# Altium footprint library maxim.PCBLIB: 63 footprints (part 4 of 4)
Each footprint in its own frame and in the unit in brackets; x right, y up, seen from the top. Pads: shape width x height; smd on the part's side, far side on the other; paste and mask are expansions set on the pad; w line width, h text height; cw(c..) or ccw(c..) is an arc to the next point about the centre after c.
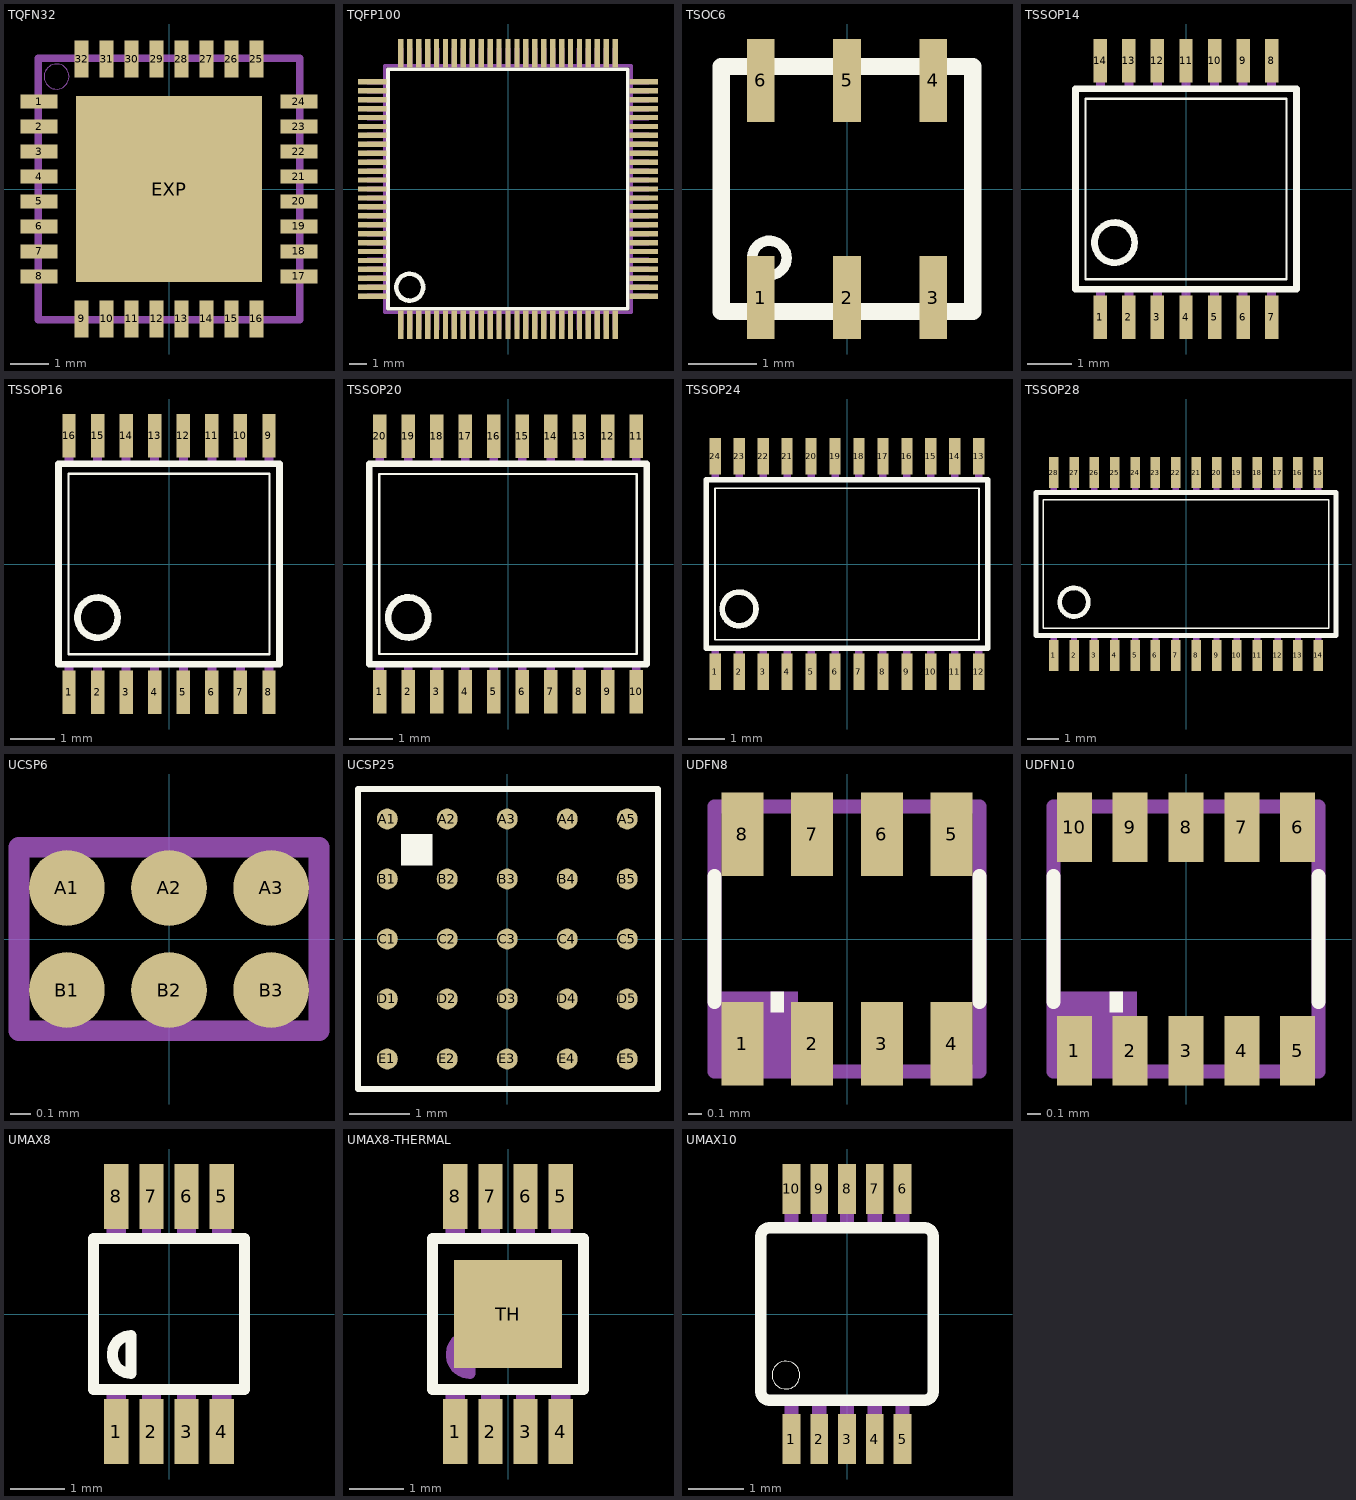
[diagram p3: the footprints below, top view; thin cyan lines are the x and y axes]

## TQFN32 [mil]
pads (33):
  rect 37.99x14.39 smd: 1(-132.99,89.57) 2(-132.99,63.98) 3(-132.99,38.39) 4(-132.99,12.8) 5(-132.99,-12.8) 6(-132.99,-38.39) 7(-132.99,-63.98) 8(-132.99,-89.57) 17(132.99,-89.57) 18(132.99,-63.98) 19(132.99,-38.39) 20(132.99,-12.8) 21(132.99,12.8) 22(132.99,38.39) 23(132.99,63.98) 24(132.99,89.57)
  rect 14.39x37.99 smd: 9(-89.57,-132.99) 10(-63.98,-132.99) 11(-38.39,-132.99) 12(-12.8,-132.99) 13(12.8,-132.99) 14(38.39,-132.99) 15(63.98,-132.99) 16(89.57,-132.99) 25(89.57,132.99) 26(63.98,132.99) 27(38.39,132.99) 28(12.8,132.99) 29(-12.8,132.99) 30(-38.39,132.99) 31(-63.98,132.99) 32(-89.57,132.99)
  rect 190.98x190.98 smd: EXP(0,0)
Top Paste:
  rectangle: -150.69,83.66 -115.26,95.47
  rectangle: -90.55,-90.55 90.55,90.55
  rectangle: -150.69,58.07 -115.26,69.88
  rectangle: -150.69,32.48 -115.26,44.29
  rectangle: -150.69,6.89 -115.26,18.7
  rectangle: -150.69,-18.7 -115.26,-6.89
  rectangle: -150.69,-44.29 -115.26,-32.48
  rectangle: -150.69,-69.88 -115.26,-58.07
  rectangle: -150.69,-95.47 -115.26,-83.66
  region: -83.66,-150.69 -83.66,-115.26 -95.47,-115.26 -95.47,-150.69
  region: -58.07,-150.69 -58.07,-115.26 -69.88,-115.26 -69.88,-150.69
  region: -32.48,-150.69 -32.48,-115.26 -44.29,-115.26 -44.29,-150.69
  region: -6.89,-150.69 -6.89,-115.26 -18.7,-115.26 -18.7,-150.69
  region: 18.7,-150.69 18.7,-115.26 6.89,-115.26 6.89,-150.69
  region: 44.29,-150.69 44.29,-115.26 32.48,-115.26 32.48,-150.69
  region: 69.88,-150.69 69.88,-115.26 58.07,-115.26 58.07,-150.69
  region: 95.47,-150.69 95.47,-115.26 83.66,-115.26 83.66,-150.69
  region: 150.69,-83.66 115.26,-83.66 115.26,-95.47 150.69,-95.47
  region: 150.69,-58.07 115.26,-58.07 115.26,-69.88 150.69,-69.88
  region: 150.69,-32.48 115.26,-32.48 115.26,-44.29 150.69,-44.29
  region: 150.69,-6.89 115.26,-6.89 115.26,-18.7 150.69,-18.7
  region: 150.69,18.7 115.26,18.7 115.26,6.89 150.69,6.89
  region: 150.69,44.29 115.26,44.29 115.26,32.48 150.69,32.48
  region: 150.69,69.88 115.26,69.88 115.26,58.07 150.69,58.07
  region: 150.69,95.47 115.26,95.47 115.26,83.66 150.69,83.66
  region: 83.66,150.69 83.66,115.26 95.47,115.26 95.47,150.69
  region: 58.07,150.69 58.07,115.26 69.88,115.26 69.88,150.69
  region: 32.48,150.69 32.48,115.26 44.29,115.26 44.29,150.69
  region: 6.89,150.69 6.89,115.26 18.7,115.26 18.7,150.69
  region: -18.7,150.69 -18.7,115.26 -6.89,115.26 -6.89,150.69
  region: -44.29,150.69 -44.29,115.26 -32.48,115.26 -32.48,150.69
  region: -69.88,150.69 -69.88,115.26 -58.07,115.26 -58.07,150.69
  region: -95.47,150.69 -95.47,115.26 -83.66,115.26 -83.66,150.69
Top Solder:
  rectangle: -153.64,80.71 -112.3,98.43
  rectangle: -99.41,-98.43 98.43,98.43
  rectangle: -153.64,55.12 -112.3,72.83
  rectangle: -153.64,29.53 -112.3,47.24
  rectangle: -153.64,3.94 -112.3,21.65
  rectangle: -153.64,-21.65 -112.3,-3.94
  rectangle: -153.64,-47.24 -112.3,-29.53
  rectangle: -153.64,-72.83 -112.3,-55.12
  rectangle: -153.64,-98.43 -112.3,-80.71
  region: -80.71,-153.64 -80.71,-112.3 -98.43,-112.3 -98.43,-153.64
  region: -55.12,-153.64 -55.12,-112.3 -72.84,-112.3 -72.84,-153.64
  region: -29.53,-153.64 -29.53,-112.3 -47.25,-112.3 -47.25,-153.64
  region: -3.93,-153.63 -3.93,-112.31 -21.66,-112.31 -21.66,-153.63
  region: 21.66,-153.63 21.66,-112.31 3.93,-112.31 3.93,-153.63
  region: 47.25,-153.64 47.25,-112.3 29.53,-112.3 29.53,-153.64
  region: 72.84,-153.64 72.84,-112.3 55.12,-112.3 55.12,-153.64
  region: 98.43,-153.64 98.43,-112.3 80.71,-112.3 80.71,-153.64
  region: 153.64,-80.71 112.3,-80.71 112.3,-98.43 153.64,-98.43
  region: 153.64,-55.12 112.3,-55.12 112.3,-72.83 153.64,-72.83
  region: 153.64,-29.53 112.3,-29.53 112.3,-47.24 153.64,-47.24
  region: 153.64,-3.94 112.3,-3.94 112.3,-21.65 153.64,-21.65
  region: 153.64,21.65 112.3,21.65 112.3,3.94 153.64,3.94
  region: 153.64,47.24 112.3,47.24 112.3,29.53 153.64,29.53
  region: 153.64,72.83 112.3,72.83 112.3,55.12 153.64,55.12
  region: 153.64,98.43 112.3,98.43 112.3,80.71 153.64,80.71
  region: 80.71,153.64 80.71,112.3 98.43,112.3 98.43,153.64
  region: 55.12,153.64 55.12,112.3 72.84,112.3 72.84,153.64
  region: 29.53,153.64 29.53,112.3 47.25,112.3 47.25,153.64
  region: 3.93,153.63 3.93,112.31 21.66,112.31 21.66,153.63
  region: -21.66,153.63 -21.66,112.31 -3.93,112.31 -3.93,153.63
  region: -47.25,153.64 -47.25,112.3 -29.53,112.3 -29.53,153.64
  region: -72.84,153.64 -72.84,112.3 -55.12,112.3 -55.12,153.64
  region: -98.43,153.64 -98.43,112.3 -80.71,112.3 -80.71,153.64
Mechanical 16:
  circle w0: c-115.16,115.16 r12.8
  lines w8: -133.86,-133.86 -133.86,133.86 133.86,133.86 133.86,-133.86 -133.86,-133.86

## TQFP100 [mm]
pads (100):
  rect 0.3x1.6 smd: 1(-6,-7.6) 2(-5.5,-7.6) 3(-5,-7.6) 4(-4.5,-7.6) 5(-4,-7.6) 6(-3.5,-7.6) 7(-3,-7.6) 8(-2.5,-7.6) 9(-2,-7.6) 10(-1.5,-7.6) 11(-1,-7.6) 12(-0.5,-7.6) 13(0,-7.6) 14(0.5,-7.6) 15(1,-7.6) 16(1.5,-7.6) 17(2,-7.6) 18(2.5,-7.6) 19(3,-7.6) 20(3.5,-7.6) 21(4,-7.6) 22(4.5,-7.6) 23(5,-7.6) 24(5.5,-7.6) 25(6,-7.6) 51(6,7.6) 52(5.5,7.6) 53(5,7.6) 54(4.5,7.6) 55(4,7.6) 56(3.5,7.6) 57(3,7.6) 58(2.5,7.6) 59(2,7.6) 60(1.5,7.6) 61(1,7.6) 62(0.5,7.6) 63(0,7.6) 64(-0.5,7.6) 65(-1,7.6) 66(-1.5,7.6) 67(-2,7.6) 68(-2.5,7.6) 69(-3,7.6) 70(-3.5,7.6) 71(-4,7.6) 72(-4.5,7.6) 73(-5,7.6) 74(-5.5,7.6) 75(-6,7.6)
  rect 1.6x0.3 smd: 26(7.6,-6) 27(7.6,-5.5) 28(7.6,-5) 29(7.6,-4.5) 30(7.6,-4) 31(7.6,-3.5) 32(7.6,-3) 33(7.6,-2.5) 34(7.6,-2) 35(7.6,-1.5) 36(7.6,-1) 37(7.6,-0.5) 38(7.6,0) 39(7.6,0.5) 40(7.6,1) 41(7.6,1.5) 42(7.6,2) 43(7.6,2.5) 44(7.6,3) 45(7.6,3.5) 46(7.6,4) 47(7.6,4.5) 48(7.6,5) 49(7.6,5.5) 50(7.6,6) 76(-7.6,6) 77(-7.6,5.5) 78(-7.6,5) 79(-7.6,4.5) 80(-7.6,4) 81(-7.6,3.5) 82(-7.6,3) 83(-7.6,2.5) 84(-7.6,2) 85(-7.6,1.5) 86(-7.6,1) 87(-7.6,0.5) 88(-7.6,0) 89(-7.6,-0.5) 90(-7.6,-1) 91(-7.6,-1.5) 92(-7.6,-2) 93(-7.6,-2.5) 94(-7.6,-3) 95(-7.6,-3.5) 96(-7.6,-4) 97(-7.6,-4.5) 98(-7.6,-5) 99(-7.6,-5.5) 100(-7.6,-6)
Top Overlay:
  circle w0.254: c-5.5,-5.5 r0.75
  lines w0.203: -6.72,-6.71 6.71,-6.71 6.71,6.71 -6.72,6.71 -6.72,-6.71
Mechanical 16:
  rectangle: -6.15,-7.9 -5.85,-6.95
  rectangle: -5.65,-7.9 -5.35,-6.95
  rectangle: -5.15,-7.9 -4.85,-6.95
  rectangle: -4.65,-7.9 -4.35,-6.95
  rectangle: -4.15,-7.9 -3.85,-6.95
  rectangle: -3.65,-7.9 -3.35,-6.95
  rectangle: -3.15,-7.9 -2.85,-6.95
  rectangle: -2.65,-7.9 -2.35,-6.95
  rectangle: -2.15,-7.9 -1.85,-6.95
  rectangle: -1.65,-7.9 -1.35,-6.95
  rectangle: -1.15,-7.9 -0.85,-6.95
  rectangle: -0.65,-7.9 -0.35,-6.95
  rectangle: -0.15,-7.9 0.15,-6.95
  rectangle: 0.35,-7.9 0.65,-6.95
  rectangle: 0.85,-7.9 1.15,-6.95
  rectangle: 1.35,-7.9 1.65,-6.95
  rectangle: 1.85,-7.9 2.15,-6.95
  rectangle: 2.35,-7.9 2.65,-6.95
  rectangle: 2.85,-7.9 3.15,-6.95
  rectangle: 3.35,-7.9 3.65,-6.95
  rectangle: 3.85,-7.9 4.15,-6.95
  rectangle: 4.35,-7.9 4.65,-6.95
  rectangle: 4.85,-7.9 5.15,-6.95
  rectangle: 5.35,-7.9 5.65,-6.95
  rectangle: 5.85,-7.9 6.15,-6.95
  rectangle: 6.95,-6.15 7.9,-5.85
  rectangle: 6.95,-5.65 7.9,-5.35
  rectangle: 6.95,-5.15 7.9,-4.85
  rectangle: 6.95,-4.65 7.9,-4.35
  rectangle: 6.95,-4.15 7.9,-3.85
  rectangle: 6.95,-3.65 7.9,-3.35
  rectangle: 6.95,-3.15 7.9,-2.85
  rectangle: 6.95,-2.65 7.9,-2.35
  rectangle: 6.95,-2.15 7.9,-1.85
  rectangle: 6.95,-1.65 7.9,-1.35
  rectangle: 6.95,-1.15 7.9,-0.85
  rectangle: 6.95,-0.65 7.9,-0.35
  rectangle: 6.95,-0.15 7.9,0.15
  rectangle: 6.95,0.35 7.9,0.65
  rectangle: 6.95,0.85 7.9,1.15
  rectangle: 6.95,1.35 7.9,1.65
  rectangle: 6.95,1.85 7.9,2.15
  rectangle: 6.95,2.35 7.9,2.65
  rectangle: 6.95,2.85 7.9,3.15
  rectangle: 6.95,3.35 7.9,3.65
  rectangle: 6.95,3.85 7.9,4.15
  rectangle: 6.95,4.35 7.9,4.65
  rectangle: 6.95,4.85 7.9,5.15
  rectangle: 6.95,5.35 7.9,5.65
  rectangle: 6.95,5.85 7.9,6.15
  rectangle: 5.85,6.95 6.15,7.9
  rectangle: 5.35,6.95 5.65,7.9
  rectangle: 4.85,6.95 5.15,7.9
  rectangle: 4.35,6.95 4.65,7.9
  rectangle: 3.85,6.95 4.15,7.9
  rectangle: 3.35,6.95 3.65,7.9
  rectangle: 2.85,6.95 3.15,7.9
  rectangle: 2.35,6.95 2.65,7.9
  rectangle: 1.85,6.95 2.15,7.9
  rectangle: 1.35,6.95 1.65,7.9
  rectangle: 0.85,6.95 1.15,7.9
  rectangle: 0.35,6.95 0.65,7.9
  rectangle: -0.15,6.95 0.15,7.9
  rectangle: -0.65,6.95 -0.35,7.9
  rectangle: -1.15,6.95 -0.85,7.9
  rectangle: -1.65,6.95 -1.35,7.9
  rectangle: -2.15,6.95 -1.85,7.9
  rectangle: -2.65,6.95 -2.35,7.9
  rectangle: -3.15,6.95 -2.85,7.9
  rectangle: -3.65,6.95 -3.35,7.9
  rectangle: -4.15,6.95 -3.85,7.9
  rectangle: -4.65,6.95 -4.35,7.9
  rectangle: -5.15,6.95 -4.85,7.9
  rectangle: -5.65,6.95 -5.35,7.9
  rectangle: -6.15,6.95 -5.85,7.9
  rectangle: -7.9,5.85 -6.95,6.15
  rectangle: -7.9,5.35 -6.95,5.65
  rectangle: -7.9,4.85 -6.95,5.15
  rectangle: -7.9,4.35 -6.95,4.65
  rectangle: -7.9,3.85 -6.95,4.15
  rectangle: -7.9,3.35 -6.95,3.65
  rectangle: -7.9,2.85 -6.95,3.15
  rectangle: -7.9,2.35 -6.95,2.65
  rectangle: -7.9,1.85 -6.95,2.15
  rectangle: -7.9,1.35 -6.95,1.65
  rectangle: -7.9,0.85 -6.95,1.15
  rectangle: -7.9,0.35 -6.95,0.65
  rectangle: -7.9,-0.15 -6.95,0.15
  rectangle: -7.9,-0.65 -6.95,-0.35
  rectangle: -7.9,-1.15 -6.95,-0.85
  rectangle: -7.9,-1.65 -6.95,-1.35
  rectangle: -7.9,-2.15 -6.95,-1.85
  rectangle: -7.9,-2.65 -6.95,-2.35
  rectangle: -7.9,-3.15 -6.95,-2.85
  rectangle: -7.9,-3.65 -6.95,-3.35
  rectangle: -7.9,-4.15 -6.95,-3.85
  rectangle: -7.9,-4.65 -6.95,-4.35
  rectangle: -7.9,-5.15 -6.95,-4.85
  rectangle: -7.9,-5.65 -6.95,-5.35
  rectangle: -7.9,-6.15 -6.95,-5.85
  lines w0.203: -6.91,-6.91 6.91,-6.91 6.91,6.91 -6.91,6.91 -6.91,-6.91

## TSOC6 [mil]
pads (6):
  rect 16x48 smd: 1(-50,-63) 2(0,-63) 3(50,-63) 4(50,63) 5(0,63) 6(-50,63)
Top Overlay:
  circle w6: c-45,-40 r10
  lines w10: -73,-71 73,-71 73,71 -73,71 -73,-71
Mechanical 16:
  rectangle: -54,-82 -46,-42
  rectangle: -4,-82 4,-42
  rectangle: 46,-82 54,-42
  rectangle: 46,42 54,82
  rectangle: -4,42 4,82
  rectangle: -54,42 -46,82

## TSSOP14 [mil]
pads (14):
  rect 12x39 smd: 1(-76.77,-114.87) 2(-51.18,-114.87) 3(-25.59,-114.87) 4(0,-114.87) 5(25.59,-114.87) 6(51.18,-114.87) 7(76.77,-114.87) 8(76.77,114.87) 9(51.18,114.87) 10(25.59,114.87) 11(0,114.87) 12(-25.59,114.87) 13(-51.18,114.87) 14(-76.77,114.87)
Top Overlay:
  circle w6: c-64,-48 r18
  lines w2: -90,-80.87 90,-80.87 90,80.87 -90,80.87 -90,-80.87
  lines w6: -99,-89.87 99,-89.87 99,89.87 -99,89.87 -99,-89.87
Mechanical 16:
  rectangle: -80.77,-122.87 -72.77,-89.87
  rectangle: -55.18,-122.87 -47.18,-89.87
  rectangle: -29.59,-122.87 -21.59,-89.87
  rectangle: -4,-122.87 4,-89.87
  rectangle: 21.59,-122.87 29.59,-89.87
  rectangle: 47.18,-122.87 55.18,-89.87
  rectangle: 72.77,-122.87 80.77,-89.87
  rectangle: 72.77,89.87 80.77,122.87
  rectangle: 47.18,89.87 55.18,122.87
  rectangle: 21.59,89.87 29.59,122.87
  rectangle: -4,89.87 4,122.87
  rectangle: -29.59,89.87 -21.59,122.87
  rectangle: -55.18,89.87 -47.18,122.87
  rectangle: -80.77,89.87 -72.77,122.87

## TSSOP16 [mil]
pads (16):
  rect 12x39 smd: 1(-89.57,-114.87) 2(-63.98,-114.87) 3(-38.39,-114.87) 4(-12.8,-114.87) 5(12.8,-114.87) 6(38.39,-114.87) 7(63.98,-114.87) 8(89.57,-114.87) 9(89.57,114.87) 10(63.98,114.87) 11(38.39,114.87) 12(12.8,114.87) 13(-12.8,114.87) 14(-38.39,114.87) 15(-63.98,114.87) 16(-89.57,114.87)
Top Overlay:
  circle w6: c-64,-48 r18
  lines w2: -90,-80.87 90,-80.87 90,80.87 -90,80.87 -90,-80.87
  lines w6: -99,-89.87 99,-89.87 99,89.87 -99,89.87 -99,-89.87
Mechanical 16:
  rectangle: -93.57,-122.87 -85.57,-89.87
  rectangle: -67.98,-122.87 -59.98,-89.87
  rectangle: -42.39,-122.87 -34.39,-89.87
  rectangle: -16.8,-122.87 -8.8,-89.87
  rectangle: 8.8,-122.87 16.8,-89.87
  rectangle: 34.39,-122.87 42.39,-89.87
  rectangle: 59.98,-122.87 67.98,-89.87
  rectangle: 85.57,-122.87 93.57,-89.87
  rectangle: 85.57,89.87 93.57,122.87
  rectangle: 59.98,89.87 67.98,122.87
  rectangle: 34.39,89.87 42.39,122.87
  rectangle: 8.8,89.87 16.8,122.87
  rectangle: -16.8,89.87 -8.8,122.87
  rectangle: -42.39,89.87 -34.39,122.87
  rectangle: -67.98,89.87 -59.98,122.87
  rectangle: -93.57,89.87 -85.57,122.87

## TSSOP20 [mil]
pads (20):
  rect 12x39 smd: 1(-115.16,-114.87) 2(-89.57,-114.87) 3(-63.98,-114.87) 4(-38.39,-114.87) 5(-12.8,-114.87) 6(12.8,-114.87) 7(38.39,-114.87) 8(63.98,-114.87) 9(89.57,-114.87) 10(115.16,-114.87) 11(115.16,114.87) 12(89.57,114.87) 13(63.98,114.87) 14(38.39,114.87) 15(12.8,114.87) 16(-12.8,114.87) 17(-38.39,114.87) 18(-63.98,114.87) 19(-89.57,114.87) 20(-115.16,114.87)
Top Overlay:
  circle w6: c-89.59,-48 r18
  lines w2: -115.59,-80.87 115.59,-80.87 115.59,80.87 -115.59,80.87 -115.59,-80.87
  lines w6: -124.59,-89.87 124.59,-89.87 124.59,89.87 -124.59,89.87 -124.59,-89.87
Mechanical 16:
  rectangle: -119.16,-122.87 -111.16,-89.87
  rectangle: -93.57,-122.87 -85.57,-89.87
  rectangle: -67.98,-122.87 -59.98,-89.87
  rectangle: -42.39,-122.87 -34.39,-89.87
  rectangle: -16.8,-122.87 -8.8,-89.87
  rectangle: 8.8,-122.87 16.8,-89.87
  rectangle: 34.39,-122.87 42.39,-89.87
  rectangle: 59.98,-122.87 67.98,-89.87
  rectangle: 85.57,-122.87 93.57,-89.87
  rectangle: 111.16,-122.87 119.16,-89.87
  rectangle: 111.16,89.87 119.16,122.87
  rectangle: 85.57,89.87 93.57,122.87
  rectangle: 59.98,89.87 67.98,122.87
  rectangle: 34.39,89.87 42.39,122.87
  rectangle: 8.8,89.87 16.8,122.87
  rectangle: -16.8,89.87 -8.8,122.87
  rectangle: -42.39,89.87 -34.39,122.87
  rectangle: -67.98,89.87 -59.98,122.87
  rectangle: -93.57,89.87 -85.57,122.87
  rectangle: -119.16,89.87 -111.16,122.87

## TSSOP24 [mil]
pads (24):
  rect 12x39 smd: 1(-140.75,-114.87) 2(-115.16,-114.87) 3(-89.57,-114.87) 4(-63.98,-114.87) 5(-38.39,-114.87) 6(-12.8,-114.87) 7(12.8,-114.87) 8(38.39,-114.87) 9(63.98,-114.87) 10(89.57,-114.87) 11(115.16,-114.87) 12(140.75,-114.87) 13(140.75,114.87) 14(115.16,114.87) 15(89.57,114.87) 16(63.98,114.87) 17(38.39,114.87) 18(12.8,114.87) 19(-12.8,114.87) 20(-38.39,114.87) 21(-63.98,114.87) 22(-89.57,114.87) 23(-115.16,114.87) 24(-140.75,114.87)
Top Overlay:
  circle w6: c-115.18,-48 r18
  lines w2: -141.18,-80.87 141.18,-80.87 141.18,80.87 -141.18,80.87 -141.18,-80.87
  lines w6: -150.18,-89.87 150.18,-89.87 150.18,89.87 -150.18,89.87 -150.18,-89.87
Mechanical 16:
  rectangle: -144.75,-122.87 -136.75,-89.87
  rectangle: -119.16,-122.87 -111.16,-89.87
  rectangle: -93.57,-122.87 -85.57,-89.87
  rectangle: -67.98,-122.87 -59.98,-89.87
  rectangle: -42.39,-122.87 -34.39,-89.87
  rectangle: -16.8,-122.87 -8.8,-89.87
  rectangle: 8.8,-122.87 16.8,-89.87
  rectangle: 34.39,-122.87 42.39,-89.87
  rectangle: 59.98,-122.87 67.98,-89.87
  rectangle: 85.57,-122.87 93.57,-89.87
  rectangle: 111.16,-122.87 119.16,-89.87
  rectangle: 136.75,-122.87 144.75,-89.87
  rectangle: 136.75,89.87 144.75,122.87
  rectangle: 111.16,89.87 119.16,122.87
  rectangle: 85.57,89.87 93.57,122.87
  rectangle: 59.98,89.87 67.98,122.87
  rectangle: 34.39,89.87 42.39,122.87
  rectangle: 8.8,89.87 16.8,122.87
  rectangle: -16.8,89.87 -8.8,122.87
  rectangle: -42.39,89.87 -34.39,122.87
  rectangle: -67.98,89.87 -59.98,122.87
  rectangle: -93.57,89.87 -85.57,122.87
  rectangle: -119.16,89.87 -111.16,122.87
  rectangle: -144.75,89.87 -136.75,122.87

## TSSOP28 [mil]
pads (28):
  rect 12x39 smd: 1(-166.34,-114.87) 2(-140.75,-114.87) 3(-115.16,-114.87) 4(-89.57,-114.87) 5(-63.98,-114.87) 6(-38.39,-114.87) 7(-12.8,-114.87) 8(12.8,-114.87) 9(38.39,-114.87) 10(63.98,-114.87) 11(89.57,-114.87) 12(115.16,-114.87) 13(140.75,-114.87) 14(166.34,-114.87) 15(166.34,114.87) 16(140.75,114.87) 17(115.16,114.87) 18(89.57,114.87) 19(63.98,114.87) 20(38.39,114.87) 21(12.8,114.87) 22(-12.8,114.87) 23(-38.39,114.87) 24(-63.98,114.87) 25(-89.57,114.87) 26(-115.16,114.87) 27(-140.75,114.87) 28(-166.34,114.87)
Top Overlay:
  circle w6: c-140.77,-48 r18
  lines w2: -179.57,-80.87 179.57,-80.87 179.57,80.87 -179.57,80.87 -179.57,-80.87
  lines w6: -188.57,-89.87 188.57,-89.87 188.57,89.87 -188.57,89.87 -188.57,-89.87
Mechanical 16:
  rectangle: -170.34,-122.87 -162.34,-89.87
  rectangle: -144.75,-122.87 -136.75,-89.87
  rectangle: -119.16,-122.87 -111.16,-89.87
  rectangle: -93.57,-122.87 -85.57,-89.87
  rectangle: -67.98,-122.87 -59.98,-89.87
  rectangle: -42.39,-122.87 -34.39,-89.87
  rectangle: -16.8,-122.87 -8.8,-89.87
  rectangle: 8.8,-122.87 16.8,-89.87
  rectangle: 34.39,-122.87 42.39,-89.87
  rectangle: 59.98,-122.87 67.98,-89.87
  rectangle: 85.57,-122.87 93.57,-89.87
  rectangle: 111.16,-122.87 119.16,-89.87
  rectangle: 136.75,-122.87 144.75,-89.87
  rectangle: 162.34,-122.87 170.34,-89.87
  rectangle: 162.34,89.87 170.34,122.87
  rectangle: 136.75,89.87 144.75,122.87
  rectangle: 111.16,89.87 119.16,122.87
  rectangle: 85.57,89.87 93.57,122.87
  rectangle: 59.98,89.87 67.98,122.87
  rectangle: 34.39,89.87 42.39,122.87
  rectangle: 8.8,89.87 16.8,122.87
  rectangle: -16.8,89.87 -8.8,122.87
  rectangle: -42.39,89.87 -34.39,122.87
  rectangle: -67.98,89.87 -59.98,122.87
  rectangle: -93.57,89.87 -85.57,122.87
  rectangle: -119.16,89.87 -111.16,122.87
  rectangle: -144.75,89.87 -136.75,122.87
  rectangle: -170.34,89.87 -162.34,122.87

## UCSP6 [mil]
pads (6):
  rrect100% 14.57x14.57 smd: A1(-19.69,9.84) A2(0,9.84) A3(19.69,9.84) B1(-19.69,-9.84) B2(0,-9.84) B3(19.69,-9.84)
Top Solder:
  circle w0: c-19.69,9.84 r8.07
  circle w0: c0,9.84 r8.07
  circle w0: c19.69,9.84 r8.07
  circle w0: c-19.69,-9.84 r8.07
  circle w0: c0,-9.84 r8.07
  circle w0: c19.69,-9.84 r8.07
Mechanical 16:
  rectangle: -25.2,-14.57 -16.73,-5.51
  lines w4: -28.94,-17.72 28.94,-17.72 28.94,17.72 -28.94,17.72 -28.94,-17.72

## UCSP25 [mm]
pads (25):
  rrect100% 0.35x0.35 smd: A1(-2,2) A2(-1,2) A3(0,2) A4(1,2) A5(2,2) B1(-2,1) B2(-1,1) B3(0,1) B4(1,1) B5(2,1) C1(-2,0) C2(-1,0) C3(0,0) C4(1,0) C5(2,0) D1(-2,-1) D2(-1,-1) D3(0,-1) D4(1,-1) D5(2,-1) E1(-2,-2) E2(-1,-2) E3(0,-2) E4(1,-2) E5(2,-2)
Top Overlay:
  rectangle: -1.775,1.225 -1.25,1.75
  lines w0.102: -2.485,-2.5 2.51,-2.5 2.51,2.5 -2.485,2.5 -2.485,-2.5
Top Solder:
  circle w0: c-2,2 r0.2
  circle w0: c-2,1 r0.2
  circle w0: c-2,0 r0.2
  circle w0: c-2,-1 r0.2
  circle w0: c-2,-2 r0.2
  circle w0: c-1,2 r0.2
  circle w0: c-1,1 r0.2
  circle w0: c-1,0 r0.2
  circle w0: c-1,-1 r0.2
  circle w0: c-1,-2 r0.2
  circle w0: c0,2 r0.2
  circle w0: c0,1 r0.2
  circle w0: c0,0 r0.2
  circle w0: c0,-1 r0.2
  circle w0: c0,-2 r0.2
  circle w0: c1,2 r0.2
  circle w0: c1,1 r0.2
  circle w0: c1,0 r0.2
  circle w0: c1,-1 r0.2
  circle w0: c1,-2 r0.2
  circle w0: c2,2 r0.2
  circle w0: c2,1 r0.2
  circle w0: c2,0 r0.2
  circle w0: c2,-1 r0.2
  circle w0: c2,-2 r0.2

## UDFN8 [mil]
pads (8):
  rect 11.81x23.62 smd: 1(-29.53,-29.53) 2(-9.84,-29.53) 3(9.84,-29.53) 4(29.53,-29.53) 5(29.53,29.53) 6(9.84,29.53) 7(-9.84,29.53) 8(-29.53,29.53)
Top Overlay:
  rectangle: -21.65,-20.67 -17.72,-14.76
  lines w4: -37.4,-17.72 -37.4,17.72 ; 37.4,-17.72 37.4,17.72
Top Paste:
  rectangle: -34.45,-39.37 -24.61,-19.69
  rectangle: -14.76,-39.37 -4.92,-19.69
  rectangle: 4.92,-39.37 14.76,-19.69
  rectangle: 24.61,-39.37 34.45,-19.69
  region: 34.45,39.37 24.61,39.37 24.61,19.69 34.45,19.69
  region: 14.76,39.37 4.92,39.37 4.92,19.69 14.76,19.69
  region: -4.92,39.37 -14.76,39.37 -14.76,19.69 -4.92,19.69
  region: -24.61,39.37 -34.45,39.37 -34.45,19.69 -24.61,19.69
Top Solder:
  rectangle: -36.42,-42.32 -22.64,-16.73
  rectangle: -16.73,-42.32 -2.95,-16.73
  rectangle: 2.95,-42.32 16.73,-16.73
  rectangle: 22.64,-42.32 36.42,-16.73
  region: 36.42,42.32 22.64,42.32 22.64,16.73 36.42,16.73
  region: 16.73,42.32 2.95,42.32 2.95,16.73 16.73,16.73
  region: -2.95,42.32 -16.73,42.32 -16.73,16.73 -2.95,16.73
  region: -22.64,42.32 -36.42,42.32 -36.42,16.73 -22.64,16.73
Mechanical 16:
  rectangle: -37.4,-37.4 -13.78,-14.76
  lines w4: -37.4,-37.4 37.4,-37.4 37.4,37.4 -37.4,37.4 -37.4,-37.4

## UDFN10 [mil]
pads (10):
  rect 9.84x19.69 smd: 1(-31.5,-31.5) 2(-15.75,-31.5) 3(0,-31.5) 4(15.75,-31.5) 5(31.5,-31.5) 6(31.5,31.5) 7(15.75,31.5) 8(0,31.5) 9(-15.75,31.5) 10(-31.5,31.5)
Top Overlay:
  rectangle: -21.65,-20.67 -17.72,-14.76
  lines w4: -37.4,-17.72 -37.4,17.72 ; 37.4,-17.72 37.4,17.72
Top Paste:
  rectangle: -35.43,-40.35 -27.56,-22.64
  rectangle: -19.69,-40.35 -11.81,-22.64
  rectangle: -3.94,-40.35 3.94,-22.64
  rectangle: 11.81,-40.35 19.69,-22.64
  rectangle: 27.56,-40.35 35.43,-22.64
  region: 35.43,40.35 27.56,40.35 27.56,22.64 35.43,22.64
  region: 19.69,40.35 11.81,40.35 11.81,22.64 19.69,22.64
  region: 3.94,40.35 -3.94,40.35 -3.94,22.64 3.94,22.64
  region: -11.81,40.35 -19.69,40.35 -19.69,22.64 -11.81,22.64
  region: -27.56,40.35 -35.43,40.35 -35.43,22.64 -27.56,22.64
Top Solder:
  rectangle: -37.4,-42.32 -25.59,-20.67
  rectangle: -21.65,-42.32 -9.84,-20.67
  rectangle: -5.91,-42.32 5.91,-20.67
  rectangle: 9.84,-42.32 21.65,-20.67
  rectangle: 25.59,-42.32 37.4,-20.67
  region: 37.4,42.32 25.59,42.32 25.59,20.67 37.4,20.67
  region: 21.65,42.32 9.84,42.32 9.84,20.67 21.65,20.67
  region: 5.91,42.32 -5.91,42.32 -5.91,20.67 5.91,20.67
  region: -9.84,42.32 -21.65,42.32 -21.65,20.67 -9.84,20.67
  region: -25.59,42.32 -37.4,42.32 -37.4,20.67 -25.59,20.67
Mechanical 16:
  rectangle: -37.4,-37.4 -13.78,-14.76
  lines w4: -37.4,-37.4 37.4,-37.4 37.4,37.4 -37.4,37.4 -37.4,-37.4

## UMAX8 [mm]
pads (8):
  rect 0.45x1.2 smd: 1(-0.975,-2.175) 2(-0.325,-2.175) 3(0.325,-2.175) 4(0.975,-2.175) 5(0.975,2.175) 6(0.325,2.175) 7(-0.325,2.175) 8(-0.975,2.175)
Top Overlay:
  lines w0.203: -1.4,-1.4 1.4,-1.4 1.4,1.4 -1.4,1.4 -1.4,-1.4 ; -0.7,-1.1 cw(c-0.7,-0.75) -0.7,-0.4 -0.7,-1.1
Mechanical 16:
  rectangle: -1.153,-2.404 -0.797,-1.438
  rectangle: -0.503,-2.404 -0.147,-1.438
  rectangle: 0.147,-2.404 0.503,-1.438
  rectangle: 0.797,-2.404 1.153,-1.438
  rectangle: 0.797,1.438 1.153,2.404
  rectangle: 0.147,1.438 0.503,2.404
  rectangle: -0.503,1.438 -0.147,2.404
  rectangle: -1.153,1.438 -0.797,2.404

## UMAX8-THERMAL [mm]
pads (9):
  rect 0.45x1.2 smd: 1(-0.975,-2.175) 2(-0.325,-2.175) 3(0.325,-2.175) 4(0.975,-2.175) 5(0.975,2.175) 6(0.325,2.175) 7(-0.325,2.175) 8(-0.975,2.175)
  rect 2x2 smd: TH(0,0)
Top Overlay:
  lines w0.203: -1.4,-1.4 1.4,-1.4 1.4,1.4 -1.4,1.4 -1.4,-1.4
Mechanical 16:
  rectangle: -1.153,-2.404 -0.797,-1.438
  rectangle: -0.503,-2.404 -0.147,-1.438
  rectangle: 0.147,-2.404 0.503,-1.438
  rectangle: 0.797,-2.404 1.153,-1.438
  rectangle: 0.797,1.438 1.153,2.404
  rectangle: 0.147,1.438 0.503,2.404
  rectangle: -0.503,1.438 -0.147,2.404
  rectangle: -1.153,1.438 -0.797,2.404
  lines w0.203: -0.7,-1.1 cw(c-0.7,-0.75) -0.7,-0.4 -0.7,-1.1

## UMAX10 [mm]
pads (10):
  rect 0.32x0.9 smd: 1(-1,-2.25) 2(-0.5,-2.25) 3(0,-2.25) 4(0.5,-2.25) 5(1,-2.25) 6(1,2.25) 7(0.5,2.25) 8(0,2.25) 9(-0.5,2.25) 10(-1,2.25)
Top Overlay:
  circle w0: c-1.1,-1.1 r0.25
  lines w0.203: -1.55,-1.4 ccw(c-1.4,-1.4) -1.4,-1.55 1.4,-1.55 ccw(c1.4,-1.4) 1.55,-1.4 1.55,1.4 ccw(c1.4,1.4) 1.4,1.55 -1.4,1.55 ccw(c-1.4,1.4) -1.55,1.4 -1.55,-1.4
Mechanical 16:
  rectangle: -1.127,-2.565 -0.873,-1.626
  rectangle: -0.627,-2.565 -0.373,-1.626
  rectangle: -0.127,-2.565 0.127,-1.626
  rectangle: 0.373,-2.565 0.627,-1.626
  rectangle: 0.873,-2.565 1.127,-1.626
  rectangle: 0.873,1.626 1.127,2.565
  rectangle: 0.373,1.626 0.627,2.565
  rectangle: -0.127,1.626 0.127,2.565
  rectangle: -0.627,1.626 -0.373,2.565
  rectangle: -1.127,1.626 -0.873,2.565